# Altium schematic symbol library MB1063.SCHLIB: 11 symbols
Pins are listed as number, name and electrical type; pins without a type are passive.

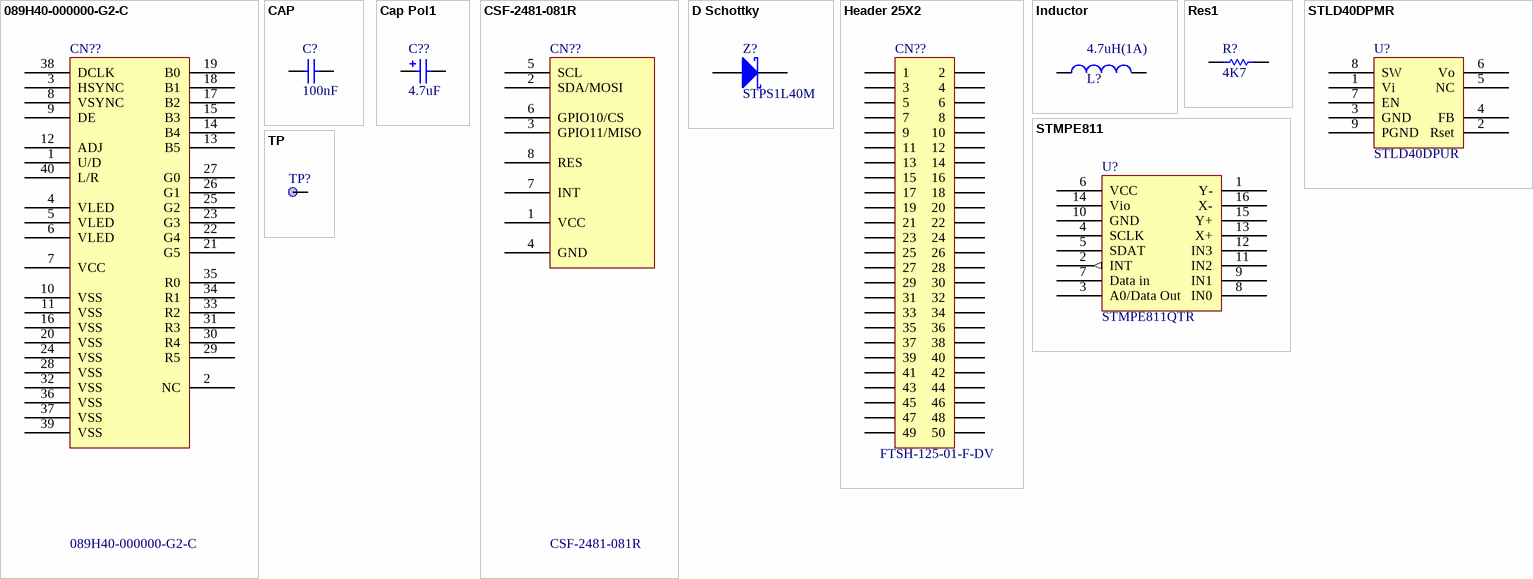
[diagram p0: symbols 089H40-000000-G2-C to TP]

## 089H40-000000-G2-C
designator CN??
footprint Pitch 0.5x40PIN ZIF Connector (Footprint not found)
pins: 1 U/D, 2 NC, 3 HSYNC, 4 VLED, 5 VLED, 6 VLED, 7 VCC, 8 VSYNC, 9 DE, 10 VSS, 11 VSS, 12 ADJ, 13 B5, 14 B4, 15 B3, 16 VSS, 17 B2, 18 B1, 19 B0, 20 VSS, 21 G5, 22 G4, 23 G3, 24 VSS, 25 G2, 26 G1, 27 G0, 28 VSS, 29 R5, 30 R4, 31 R3, 32 VSS, 33 R2, 34 R1, 35 R0, 36 VSS, 37 VSS, 38 DCLK, 39 VSS, 40 L/R

## CAP
designator C?, comment 100nF
Capacitor; Value: 100pF; Published: 8-Jun-2000; Revision: July-2002: Re-released for DXP Platform.; Publisher: Altium Limited
footprint RAD-0.3 (Capacitor; 2 Leads)
simulation model CAP (Capacitor)
signal-integrity model Cap
footprint CAPR5.08-7.8X3.2
footprint CAPR2.54-5.1X3.2
footprint 0603
footprint 0603P
footprint 0402C
footprint 0603C
pins: 1, 2

## Cap Pol1
designator C??, comment 4.7uF
Polarized Capacitor (Radial); Value: 100pF; Published: 8-Jun-2000; Revision: July-2002: Re-released for DXP Platform.; Publisher: Altium Limited
footprint TAN-B (Footprint not found)
simulation model CAP (Capacitor)
signal-integrity model Cap Pol
footprint CAPPR1.5-4X5
footprint CAPPR1.27-1.96X4.06
footprint CAPPR2-5X6.8
footprint CAPPR5-5X5
footprint CAPPR7.5-16X35
footprint TAN-A
footprint 1206C
pins: 1, 2

## CSF-2481-081R
designator CN??
footprint Pitch 0.5x8pin ZIF Connector (Footprint not found)
pins: 1 VCC, 2 SDA/MOSI, 3 GPIO11/MISO, 4 GND, 5 SCL, 6 GPIO10/CS, 7 INT, 8 RES

## D Schottky
designator Z?, comment STPS1L40M
Schottky Diode; Code - JEDEC: DO-214-AA; Published: 8-Jun-2000; Revision: July-2002: Re-released for DXP Platform.; Publisher: Altium Limited
footprint 1R1C (Footprint not found)
footprint DO216AA
pins: 1 A, 2 K

## Header 25X2
designator CN??, comment FTSH-125-01-F-DV
Header, 26-Pin, Dual row; Revision: 17-Jul-2002: Re-released for DXP Platform.; Publisher: Altium Limited
signal-integrity model Connector
footprint 2*25 SMT 1.27mm (Footprint not found)
pins: 1, 2, 3, 4, 5, 6, 7, 8, 9, 10, 11, 12, 13, 14, 15, 16, 17, 18, 19, 20, 21, 22, 23, 24, 25, 26, 27, 28, 29, 30, 31, 32, 33, 34, 35, 36, 37, 38, 39, 40, 41, 42, 43, 44, 45, 46, 47, 48, 49, 50

## Inductor
designator L?, comment 4.7uH(1A)
Inductor; Value: 100uH; Published: 8-Jun-2000; Revision: July-2002: Re-released for DXP Platform.; Publisher: Altium Limited
footprint 3225 (Footprint not found)
footprint 3225L
pins: 1, 2

## Res1
designator R?, comment 4K7
Resistor; Value: 1K; Published: 8-Jun-2000; Revision: July-2002: Re-released for DXP Platform.; Publisher: Altium Limited
footprint AXIAL-0.3
footprint 0603
footprint 0603R
footprint 0402R
pins: 1, 2
2 alternate drawings of the same symbol

## STLD40DPMR
designator U?, comment STLD40DPUR
footprint QFN8 (Footprint not found)
footprint QFNT8
pins: 1 Vi, 2 Rset, 3 GND, 4 FB, 5 NC, 6 Vo, 7 EN, 8 SW, 9 PGND

## STMPE811
designator U?, comment STMPE811QTR
footprint QFN16 (Footprint not found)
footprint QFN16(3X3)
pins: 1 Y-, 2 INT (out), 3 A0/Data Out, 4 SCLK, 5 SDAT, 6 VCC, 7 Data in, 8 IN0, 9 IN1, 10 GND, 11 IN2, 12 IN3, 13 X+, 14 Vio, 15 Y+, 16 X-

## TP
designator TP?
footprint TP
pins: 1